# Altium footprint library CHIP.PcbLib: 1 footprints
Each footprint in its own frame and in the unit in brackets; x right, y up, seen from the top. Pads: shape width x height; smd on the part's side, far side on the other; paste and mask are expansions set on the pad; w line width, h text height; cw(c..) or ccw(c..) is an arc to the next point about the centre after c.
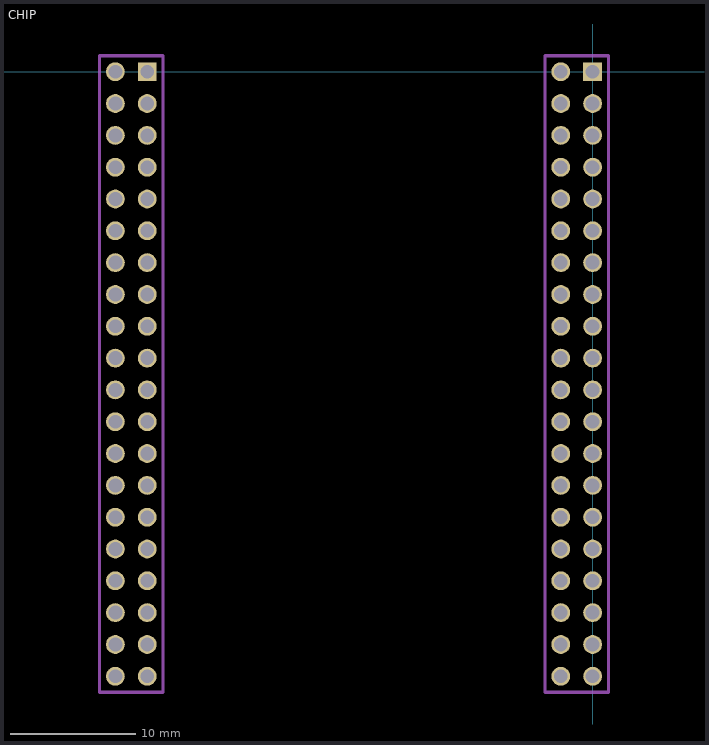
[diagram p0: the footprint, top view; thin cyan lines are the x and y axes]

## CHIP [mm] "Thru Hole CHIP"
pads (80):
  rect 1.5x1.5 hole 1.1: U13.1(0,0) U14.1(-35.56,0)
  round 1.5 hole 1.1: U13.2(-2.54,0) U13.3(0,-2.54) U13.4(-2.54,-2.54) U13.5(0,-5.08) U13.6(-2.54,-5.08) U13.7(0,-7.62) U13.8(-2.54,-7.62) U13.9(0,-10.16) U13.10(-2.54,-10.16) U13.11(0,-12.7) U13.12(-2.54,-12.7) U13.13(0,-15.24) U13.14(-2.54,-15.24) U13.15(0,-17.78) U13.16(-2.54,-17.78) U13.17(0,-20.32) U13.18(-2.54,-20.32) U13.19(0,-22.86) U13.20(-2.54,-22.86) U13.21(0,-25.4) U13.22(-2.54,-25.4) U13.23(0,-27.94) U13.24(-2.54,-27.94) U13.25(0,-30.48) U13.26(-2.54,-30.48) U13.27(0,-33.02) U13.28(-2.54,-33.02) U13.29(0,-35.56) U13.30(-2.54,-35.56) U13.31(0,-38.1) U13.32(-2.54,-38.1) U13.33(0,-40.64) U13.34(-2.54,-40.64) U13.35(0,-43.18) U13.36(-2.54,-43.18) U13.37(0,-45.72) U13.38(-2.54,-45.72) U13.39(0,-48.26) U13.40(-2.54,-48.26) U14.2(-38.1,0) U14.3(-35.56,-2.54) U14.4(-38.1,-2.54) U14.5(-35.56,-5.08) U14.6(-38.1,-5.08) U14.7(-35.56,-7.62) U14.8(-38.1,-7.62) U14.9(-35.56,-10.16) U14.10(-38.1,-10.16) U14.11(-35.56,-12.7) U14.12(-38.1,-12.7) U14.13(-35.56,-15.24) U14.14(-38.1,-15.24) U14.15(-35.56,-17.78) U14.16(-38.1,-17.78) U14.17(-35.56,-20.32) U14.18(-38.1,-20.32) U14.19(-35.56,-22.86) U14.20(-38.1,-22.86) U14.21(-35.56,-25.4) U14.22(-38.1,-25.4) U14.23(-35.56,-27.94) U14.24(-38.1,-27.94) U14.25(-35.56,-30.48) U14.26(-38.1,-30.48) U14.27(-35.56,-33.02) U14.28(-38.1,-33.02) U14.29(-35.56,-35.56) U14.30(-38.1,-35.56) U14.31(-35.56,-38.1) U14.32(-38.1,-38.1) U14.33(-35.56,-40.64) U14.34(-38.1,-40.64) U14.35(-35.56,-43.18) U14.36(-38.1,-43.18) U14.37(-35.56,-45.72) U14.38(-38.1,-45.72) U14.39(-35.56,-48.26) U14.40(-38.1,-48.26)
Mechanical 15:
  lines w0.254: -39.37,-49.53 -39.37,1.27 -34.29,1.27 -34.29,-49.53 -39.37,-49.53 ; -3.81,-49.53 -3.81,1.27 1.27,1.27 1.27,-49.53 -3.81,-49.53
3D body "TSW-120-05-G-D.stp": height 5.21, standoff -3.3, extent -39.37,-49.53 -34.29,1.27
3D body "TSW-120-05-G-D.stp": height 5.21, standoff -3.3, extent -3.81,-49.53 1.27,1.27
3D body "Part Studio 1.step": height 16.8, standoff 2.6, extent -39.55,-53.34 1.45,9.742